# EAGLE library part EDGE-LIBRARY_USB_A_2PORT_STACKED_SMA (library Local Compute Module)
Conn USB Type A RCP 4/4 POS Solder RA Thru-Hole 8 Terminal 2 Port Tray
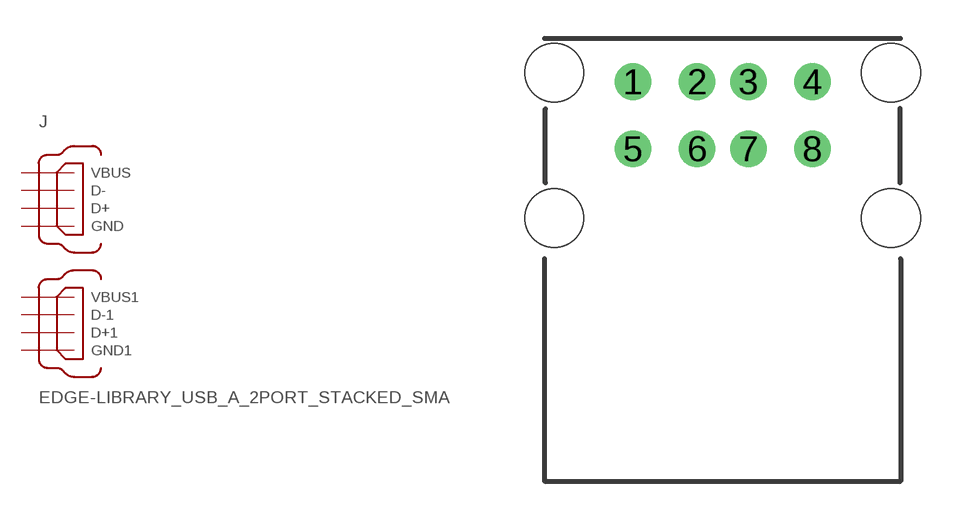
[diagram p6: symbol with the pads of EDGE-LIBRARY_67298-4090_MOLEX_67298-4090; footprint EDGE-LIBRARY_67298-4090_MOLEX_67298-4090]

Designator prefix J

## EDGE-LIBRARY_USB_A_2PORT_STACKED_SMA (DIGIKEY: WM17130-ND; MANUFACTURE: Molex; MPN: 672984090)  [EDGE-LIBRARY_67298-4090_MOLEX_67298-4090]
1  VBUS1
2  D-1
3  D+1
4  GND1
5  VBUS
6  D-
7  D+
8  GND

## Footprint EDGE-LIBRARY_67298-4090_MOLEX_67298-4090 (pad centres in mm)
drill 0.92: 1 -3.5,5.33; 2 -1,5.33; 3 1,5.33; 4 3.5,5.33; 5 -3.5,2.71; 6 -1,2.71; 7 1,2.71; 8 3.5,2.71
hole 2.3 at -6.57,5.68
hole 2.3 at -6.57,0
hole 2.3 at 6.57,5.68
hole 2.3 at 6.57,0